# Altium schematic symbol library button_bat.SchLib: 1 symbol
Pins are listed as number, name and electrical type; pins without a type are passive.

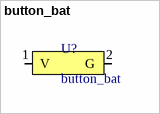
[diagram p0: symbol button_bat]

## button_bat
designator U?
footprint button_bat
pins: 1 V, 2 G